# EAGLE library part ULN2803 (library pcaroli)
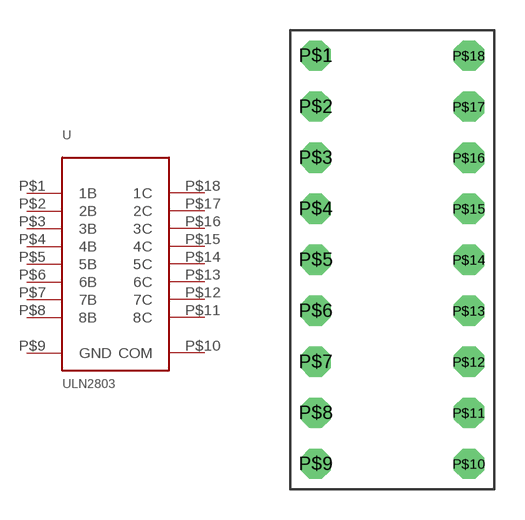
[diagram p12: symbol with the pads of DIP_18; footprint DIP_18]

Designator prefix -

## ULN2803  [DIP_18]
P$1  1B
P$2  2B
P$3  3B
P$4  4B
P$5  5B
P$6  6B
P$7  7B
P$8  8B
P$9  GND
P$10  COM
P$11  8C
P$12  7C
P$13  6C
P$14  5C
P$15  4C
P$16  3C
P$17  2C
P$18  1C

## Footprint DIP_18 (pad centres in mm)
drill 1 octagon: P$1 -3.81,10.16; P$2 -3.81,7.62; P$3 -3.81,5.08; P$4 -3.81,2.54; P$5 -3.81,0; P$6 -3.81,-2.54; P$7 -3.81,-5.08; P$8 -3.81,-7.62; P$9 -3.81,-10.16; P$10 3.81,-10.16; P$11 3.81,-7.62; P$12 3.81,-5.08; P$13 3.81,-2.54; P$14 3.81,0; P$15 3.81,2.54; P$16 3.81,5.08; P$17 3.81,7.62; P$18 3.81,10.16